# Altium footprint library PCA9685PW.PCBLIB: 1 footprints
Each footprint in its own frame and in the unit in brackets; x right, y up, seen from the top. Pads: shape width x height; smd on the part's side, far side on the other; paste and mask are expansions set on the pad; w line width, h text height; cw(c..) or ccw(c..) is an arc to the next point about the centre after c.
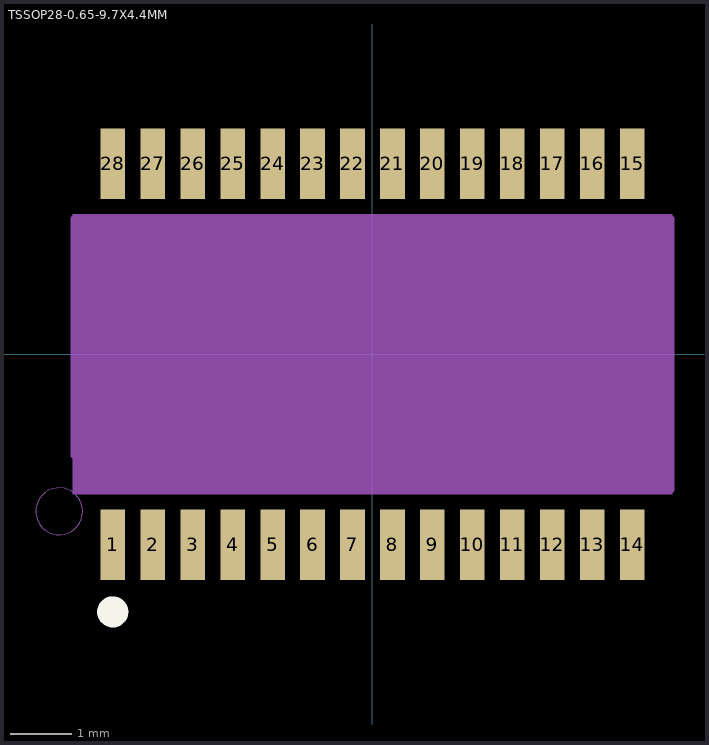
[diagram p0: the footprint, top view; thin cyan lines are the x and y axes]

## TSSOP28-0.65-9.7X4.4MM [mm]
pads (28):
  rect 0.4x1.15 smd: 1(-4.225,-3.1) 2(-3.575,-3.1) 3(-2.925,-3.1) 4(-2.275,-3.1) 5(-1.625,-3.1) 6(-0.975,-3.1) 7(-0.325,-3.1) 8(0.325,-3.1) 9(0.975,-3.1) 10(1.625,-3.1) 11(2.275,-3.1) 12(2.925,-3.1) 13(3.575,-3.1) 14(4.225,-3.1) 15(4.225,3.1) 16(3.575,3.1) 17(2.925,3.1) 18(2.275,3.1) 19(1.625,3.1) 20(0.975,3.1) 21(0.325,3.1) 22(-0.325,3.1) 23(-0.975,3.1) 24(-1.625,3.1) 25(-2.275,3.1) 26(-2.925,3.1) 27(-3.575,3.1) 28(-4.225,3.1)
Top Overlay:
  circle w0.254: c-4.225,-4.191 r0.127
Mechanical 22:
  circle w0: c-5.095,-2.555 r0.381
  lines w0.127: -4.85,-1.644 -4.85,2.2 4.85,2.2 4.85,-2.2 -4.319,-2.2 -4.85,-1.644
Mechanical 30:
  region: -4.878,-2.276 -4.878,2.275 4.875,2.275 4.875,-2.276